# Altium schematic symbol library INDUCTOR_SMD.SchLib: 13 symbols
Pins are listed as number, name and electrical type; pins without a type are passive.

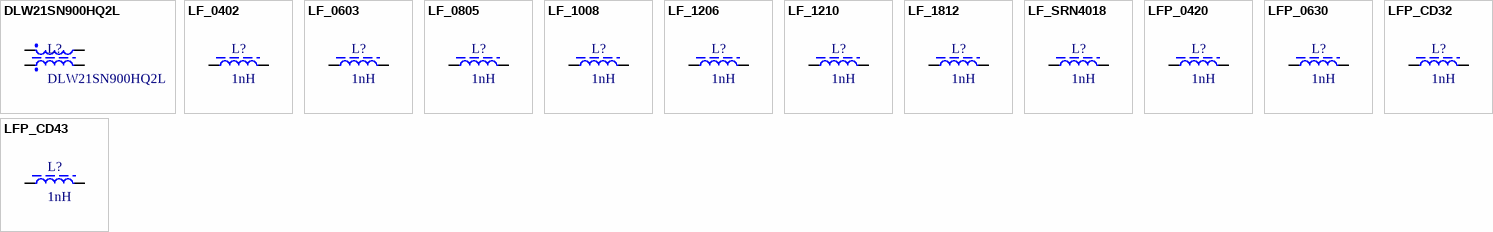
[diagram p0: symbols DLW21SN900HQ2L to LFP_CD43]

## DLW21SN900HQ2L
designator L?
2 Line Common Mode Choke Surface Mount 90 Ohms @ 100 MHz 280mA DCR 410mOhm
footprint FIL_DLW21SN900HQ2L
pins: 1, 2, 3, 4

## LF_0402
designator L?, comment 1nH
0402 SMD Ferrite Inductor.
footprint L_0402 (Inductor SMD 0402.)
pins: 1, 2

## LF_0603
designator L?, comment 1nH
0603 SMD Ferrite Inductor.
footprint L_0603 (Inductor SMD 0603.)
pins: 1, 2

## LF_0805
designator L?, comment 1nH
0805 SMD Ferrite Inductor.
footprint L_0805 (Inductor SMD 0805.)
pins: 1, 2

## LF_1008
designator L?, comment 1nH
1008 SMD Ferrite Inductor.
footprint L_1008 (Inductor SMD 1008.)
pins: 1, 2

## LF_1206
designator L?, comment 1nH
1206 SMD Ferrite Inductor.
footprint L_1206 (Inductor SMD 1206.)
pins: 1, 2

## LF_1210
designator L?, comment 1nH
1210 SMD Ferrite Inductor.
footprint L_1210 (Inductor SMD 1210.)
pins: 1, 2

## LF_1812
designator L?, comment 1nH
1812 SMD Ferrite Inductor.
footprint L_1812 (Inductor SMD 1812.)
pins: 1, 2

## LF_SRN4018
designator L?, comment 1nH
SRN4018 SMD Ferrite Inductor.
footprint SRN4018
pins: 1, 2

## LFP_0420
designator L?, comment 1nH
0420 SMD Power Ferrite Inductor.
footprint L_0420 (Inductor SMD 0420)
pins: 1, 2

## LFP_0630
designator L?, comment 1nH
0630 SMD Power Ferrite Inductor.
footprint L_0630 (Inductor SMD 0630)
pins: 1, 2

## LFP_CD32
designator L?, comment 1nH
CD32 SMD Power Ferrite Inductor.
footprint L_CD32 (Inductor SMD CD32)
pins: 1, 2

## LFP_CD43
designator L?, comment 1nH
CD43 SMD Power Ferrite Inductor.
footprint L_CD43 (Inductor SMD CD43)
pins: 1, 2